# Altium schematic symbol library scehmaticled.SchLib: 1 symbol
Pins are listed as number, name and electrical type; pins without a type are passive.

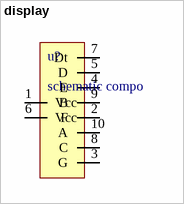
[diagram p0: symbol display]

## display
designator u?, comment schematic compo
7segment leddisplay
footprint display
pins: 1 Vcc, 2 F, 3 G, 4 E, 5 D, 6 Vcc, 7 Dt, 8 C, 9 B, 10 A